# Altium footprint library hedb.PcbLib: 17 footprints (part 2 of 2)
Each footprint in its own frame and in the unit in brackets; x right, y up, seen from the top. Pads: shape width x height; smd on the part's side, far side on the other; paste and mask are expansions set on the pad; w line width, h text height; cw(c..) or ccw(c..) is an arc to the next point about the centre after c.
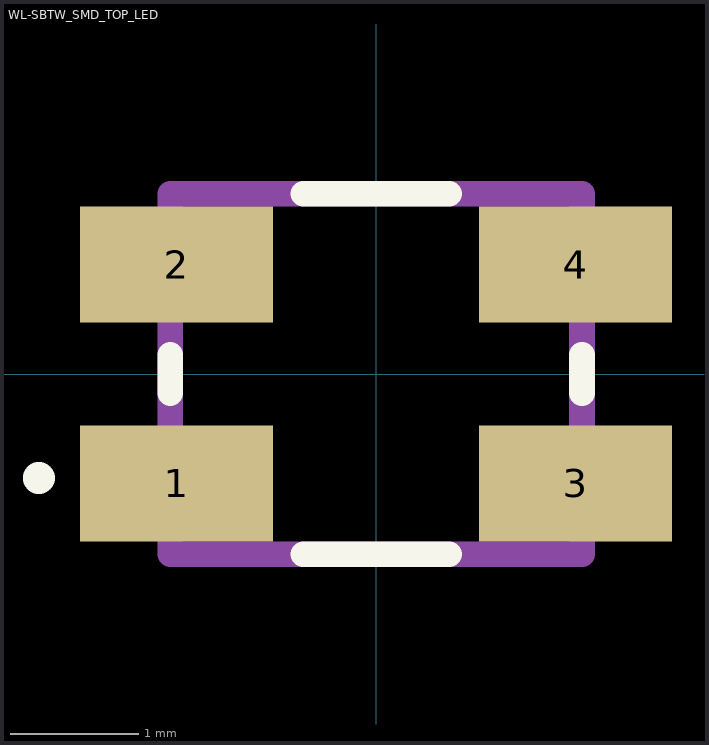
[diagram p1: the footprint, top view; thin cyan lines are the x and y axes]

## WL-SBTW_SMD_TOP_LED [mm]
pads (4):
  rect 1.5x0.9 smd: 1(-1.55,-0.85) 2(-1.55,0.85) 3(1.55,-0.85) 4(1.55,0.85)
Top Overlay:
  circle w0.2: c-2.621,-0.808 r0.024
  lines w0.2: -1.6,-0.15 -1.6,0.15 ; -0.567,-1.4 0.567,-1.4 ; -0.567,1.4 0.567,1.4 ; 1.6,-0.15 1.6,0.15
Mechanical 13:
  lines w0.2: -1.6,-1.4 -1.6,1.4 1.6,1.4 1.6,-1.4 -1.6,-1.4